# EAGLE library part CQB150W-110S-V12 (library Solar_Parts_Lib)
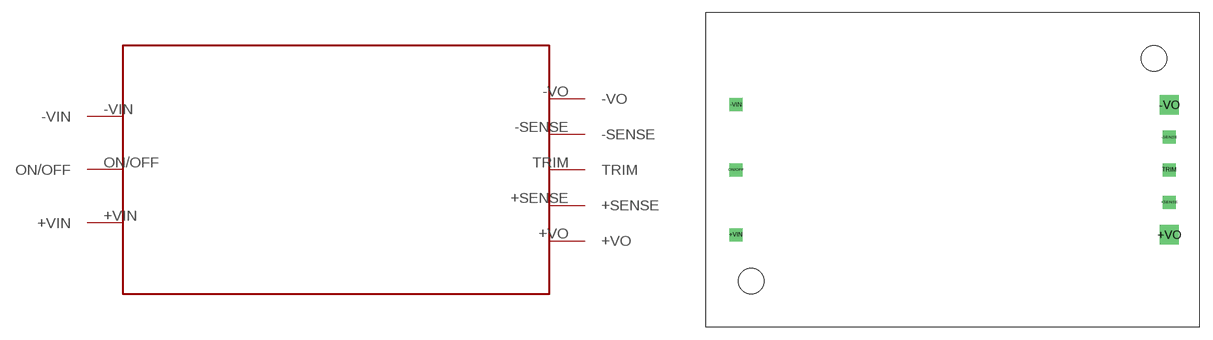
[diagram p0: symbol with the pads of CQB150W-110S-V12; footprint CQB150W-110S-V12]

Designator prefix -

## CQB150W-110S-V12  [CQB150W-110S-V12]
+SENSE  +SENSE
+VIN  +VIN
+VO  +VO
-SENSE  -SENSE
-VIN  -VIN
-VO  -VO
ON/OFF  ON/OFF
TRIM  TRIM

## Footprint CQB150W-110S-V12 (pad centres in mm)
drill 1.016 square: +SENSE 25.4,-3.81; +VIN -25.4,-7.62; -SENSE 25.4,3.81; -VIN -25.4,7.62; ON/OFF -25.4,0; TRIM 25.4,0
drill 1.499 square: +VO 25.4,-7.62; -VO 25.4,7.62
hole 3 at -23.622,-13.081
hole 3 at 23.622,13.081